# EAGLE library part TDA19988 (library Revolve)
TDA19988 edit this description Auto generated by make-symbol-device-package-bsdl.ulp Rev. 44 Source: TDA19988.txt
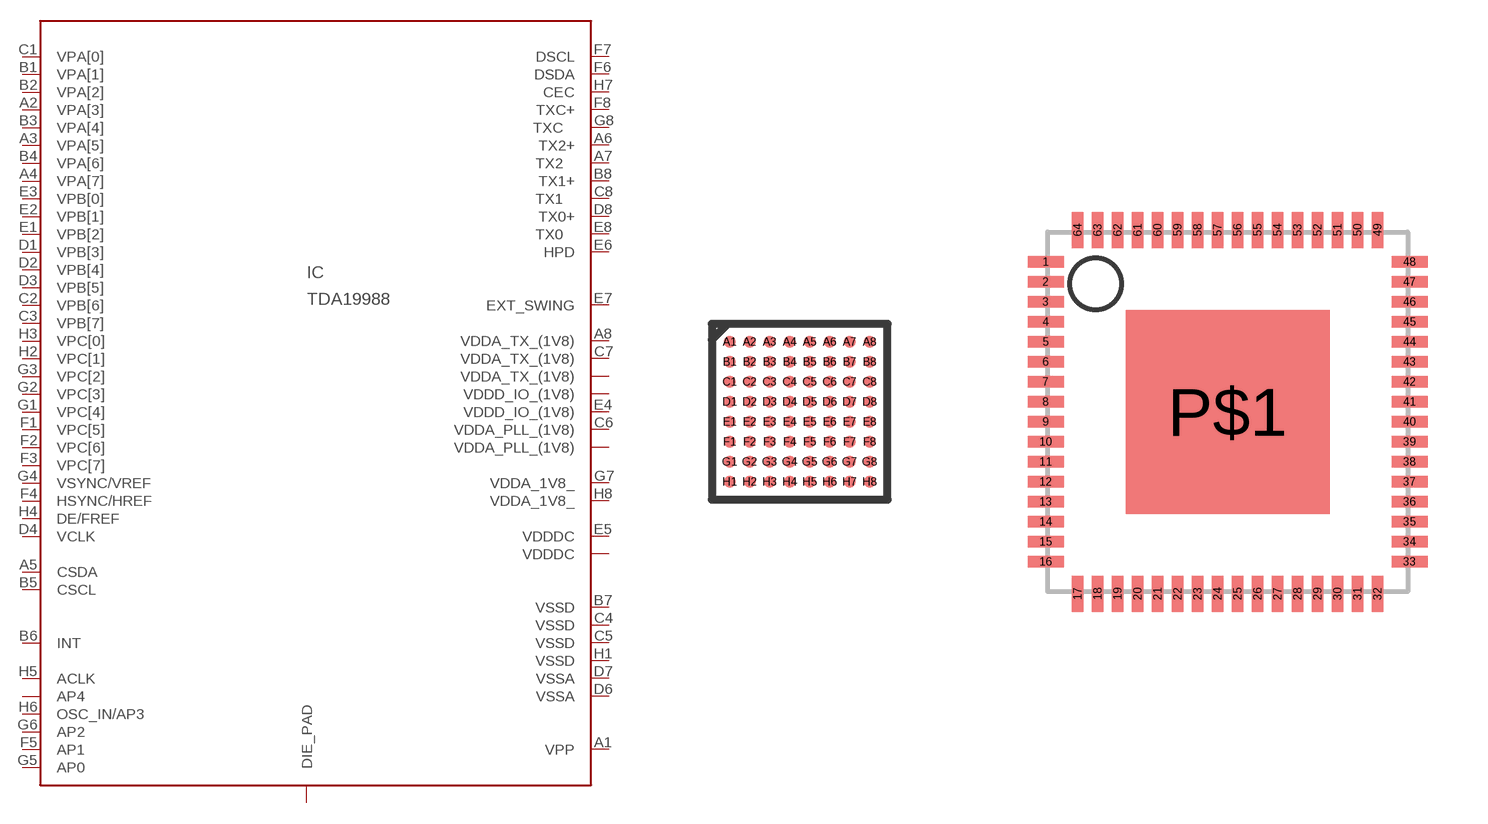
[diagram p0: symbol with the pads of TFBGA64; footprints TFBGA64, SOT804-4]

Designator prefix IC

## TDA19988BGA  [TFBGA64]
A1  VPP  pwr
A2  VPA[3]  in
A3  VPA[5]  in
A4  VPA[7]  in
A5  CSDA
A6  TX2+  out
A7  TX2  out
A8  VDDA_TX_(1V8)  pwr
B1  VPA[1]  in
B2  VPA[2]  in
B3  VPA[4]  in
B4  VPA[6]  in
B5  CSCL  in
B6  INT
B7  VSSD  pwr
B8  TX1+  out
C1  VPA[0]  in
C2  VPB[6]  in
C3  VPB[7]  in
C4  VSSD  pwr
C5  VSSD  pwr
C6  VDDA_PLL_(1V8)  pwr
C7  VDDA_TX_(1V8)  pwr
C8  TX1  out
D1  VPB[3]  in
D2  VPB[4]  in
D3  VPB[5]  in
D4  VCLK  in
D6  VSSA  pwr
D7  VSSA  pwr
D8  TX0+  out
E1  VPB[2]  in
E2  VPB[1]  in
E3  VPB[0]  in
E4  VDDD_IO_(1V8)  pwr
E5  VDDDC  pwr
E6  HPD  in
E7  EXT_SWING  out
E8  TX0  out
F1  VPC[5]  in
F2  VPC[6]  in
F3  VPC[7]  in
F4  HSYNC/HREF  in
F5  AP1  in
F6  DSDA
F7  DSCL  in
F8  TXC+  out
G1  VPC[4]  in
G2  VPC[3]  in
G3  VPC[2]  in
G4  VSYNC/VREF  in
G5  AP0  in
G6  AP2  in
G7  VDDA_1V8_  pwr
G8  TXC  out
H1  VSSD  pwr
H2  VPC[1]  in
H3  VPC[0]  in
H4  DE/FREF  in
H5  ACLK  in
H6  OSC_IN/AP3  in
H7  CEC
H8  VDDA_1V8_  pwr

## TDA19988QFP  [SOT804-4]
1  VPB[6]  in
2  VPB[5]  in
3  VPB[4]  in
4  VCLK  in
6  VPB[3]  in
7  VPB[2]  in
8  VPB[1]  in
9  VPB[0]  in
10  VPC[7]  in
11  VPC[6]  in
12  VPC[5]  in
13  VPC[4]  in
15  VPC[3]  in
16  VPC[2]  in
17  VPC[1]  in
18  VPC[0]  in
20  DE/FREF  in
21  VSYNC/VREF  in
22  HSYNC/HREF  in
23  ACLK  in
24  AP0  in
25  AP1  in
26  AP2  in
27  OSC_IN/AP3  in
28  AP4
30  CEC
31  HPD  in
32  DSDA
33  DSCL  in
34  EXT_SWING  out
37  TXC  out
38  TXC+  out
39  TX0  out
40  TX0+  out
42  TX1  out
43  TX1+  out
44  TX2  out
45  TX2+  out
50  INT
51  CSDA
52  CSCL  in
56  VPA[7]  in
57  VPA[6]  in
58  VPA[5]  in
59  VPA[4]  in
60  VPA[3]  in
61  VPA[2]  in
62  VPA[1]  in
63  VPA[0]  in
64  VPB[7]  in

## Footprint TFBGA64 (pad centres in mm)
TDA19988 edit this description Auto generated by make-symbol-device-package-bsdl.ulp Rev. 44 Source: TDA19988.txt
smd 0.3 x 0.3: A1 -1.75,1.75; A2 -1.25,1.75; A3 -0.75,1.75; A4 -0.25,1.75; A5 0.25,1.75; A6 0.75,1.75; A7 1.25,1.75; A8 1.75,1.75; B1 -1.75,1.25; B2 -1.25,1.25; B3 -0.75,1.25; B4 -0.25,1.25; B5 0.25,1.25; B6 0.75,1.25; B7 1.25,1.25; B8 1.75,1.25; C1 -1.75,0.75; C2 -1.25,0.75; C3 -0.75,0.75; C4 -0.25,0.75; C5 0.25,0.75; C6 0.75,0.75; C7 1.25,0.75; C8 1.75,0.75; D1 -1.75,0.25; D2 -1.25,0.25; D3 -0.75,0.25; D4 -0.25,0.25; D5 0.25,0.25; D6 0.75,0.25; D7 1.25,0.25; D8 1.75,0.25; E1 -1.75,-0.25; E2 -1.25,-0.25; E3 -0.75,-0.25; E4 -0.25,-0.25; E5 0.25,-0.25; E6 0.75,-0.25; E7 1.25,-0.25; E8 1.75,-0.25; F1 -1.75,-0.75; F2 -1.25,-0.75; F3 -0.75,-0.75; F4 -0.25,-0.75; F5 0.25,-0.75; F6 0.75,-0.75; F7 1.25,-0.75; F8 1.75,-0.75; G1 -1.75,-1.25; G2 -1.25,-1.25; G3 -0.75,-1.25; G4 -0.25,-1.25; G5 0.25,-1.25; G6 0.75,-1.25; G7 1.25,-1.25; G8 1.75,-1.25; H1 -1.75,-1.75; H2 -1.25,-1.75; H3 -0.75,-1.75; H4 -0.25,-1.75; H5 0.25,-1.75; H6 0.75,-1.75; H7 1.25,-1.75; H8 1.75,-1.75

## Footprint SOT804-4 (pad centres in mm)
smd 0.9 x 0.29: 1 -4.55,3.75; 2 -4.55,3.25; 3 -4.55,2.75; 4 -4.55,2.25; 5 -4.55,1.75; 6 -4.55,1.25; 7 -4.55,0.75; 8 -4.55,0.25; 9 -4.55,-0.25; 10 -4.55,-0.75; 11 -4.55,-1.25; 12 -4.55,-1.75; 13 -4.55,-2.25; 14 -4.55,-2.75; 15 -4.55,-3.25; 16 -4.55,-3.75; 33 4.55,-3.75; 34 4.55,-3.25; 35 4.55,-2.75; 36 4.55,-2.25; 37 4.55,-1.75; 38 4.55,-1.25; 39 4.55,-0.75; 40 4.55,-0.25; 41 4.55,0.25; 42 4.55,0.75; 43 4.55,1.25; 44 4.55,1.75; 45 4.55,2.25; 46 4.55,2.75; 47 4.55,3.25; 48 4.55,3.75
smd 0.29 x 0.9: 17 -3.75,-4.55; 18 -3.25,-4.55; 19 -2.75,-4.55; 20 -2.25,-4.55; 21 -1.75,-4.55; 22 -1.25,-4.55; 23 -0.75,-4.55; 24 -0.25,-4.55; 25 0.25,-4.55; 26 0.75,-4.55; 27 1.25,-4.55; 28 1.75,-4.55; 29 2.25,-4.55; 30 2.75,-4.55; 31 3.25,-4.55; 32 3.75,-4.55; 49 3.75,4.55; 50 3.25,4.55; 51 2.75,4.55; 52 2.25,4.55; 53 1.75,4.55; 54 1.25,4.55; 55 0.75,4.55; 56 0.25,4.55; 57 -0.25,4.55; 58 -0.75,4.55; 59 -1.25,4.55; 60 -1.75,4.55; 61 -2.25,4.55; 62 -2.75,4.55; 63 -3.25,4.55; 64 -3.75,4.55
smd 5.1 x 5.1: P$1 0,0